# Altium footprint library FootPrintLib_2.PcbLib: 173 footprints (part 4 of 11)
Each footprint in its own frame and in the unit in brackets; x right, y up, seen from the top. Pads: shape width x height; smd on the part's side, far side on the other; paste and mask are expansions set on the pad; w line width, h text height; cw(c..) or ccw(c..) is an arc to the next point about the centre after c.
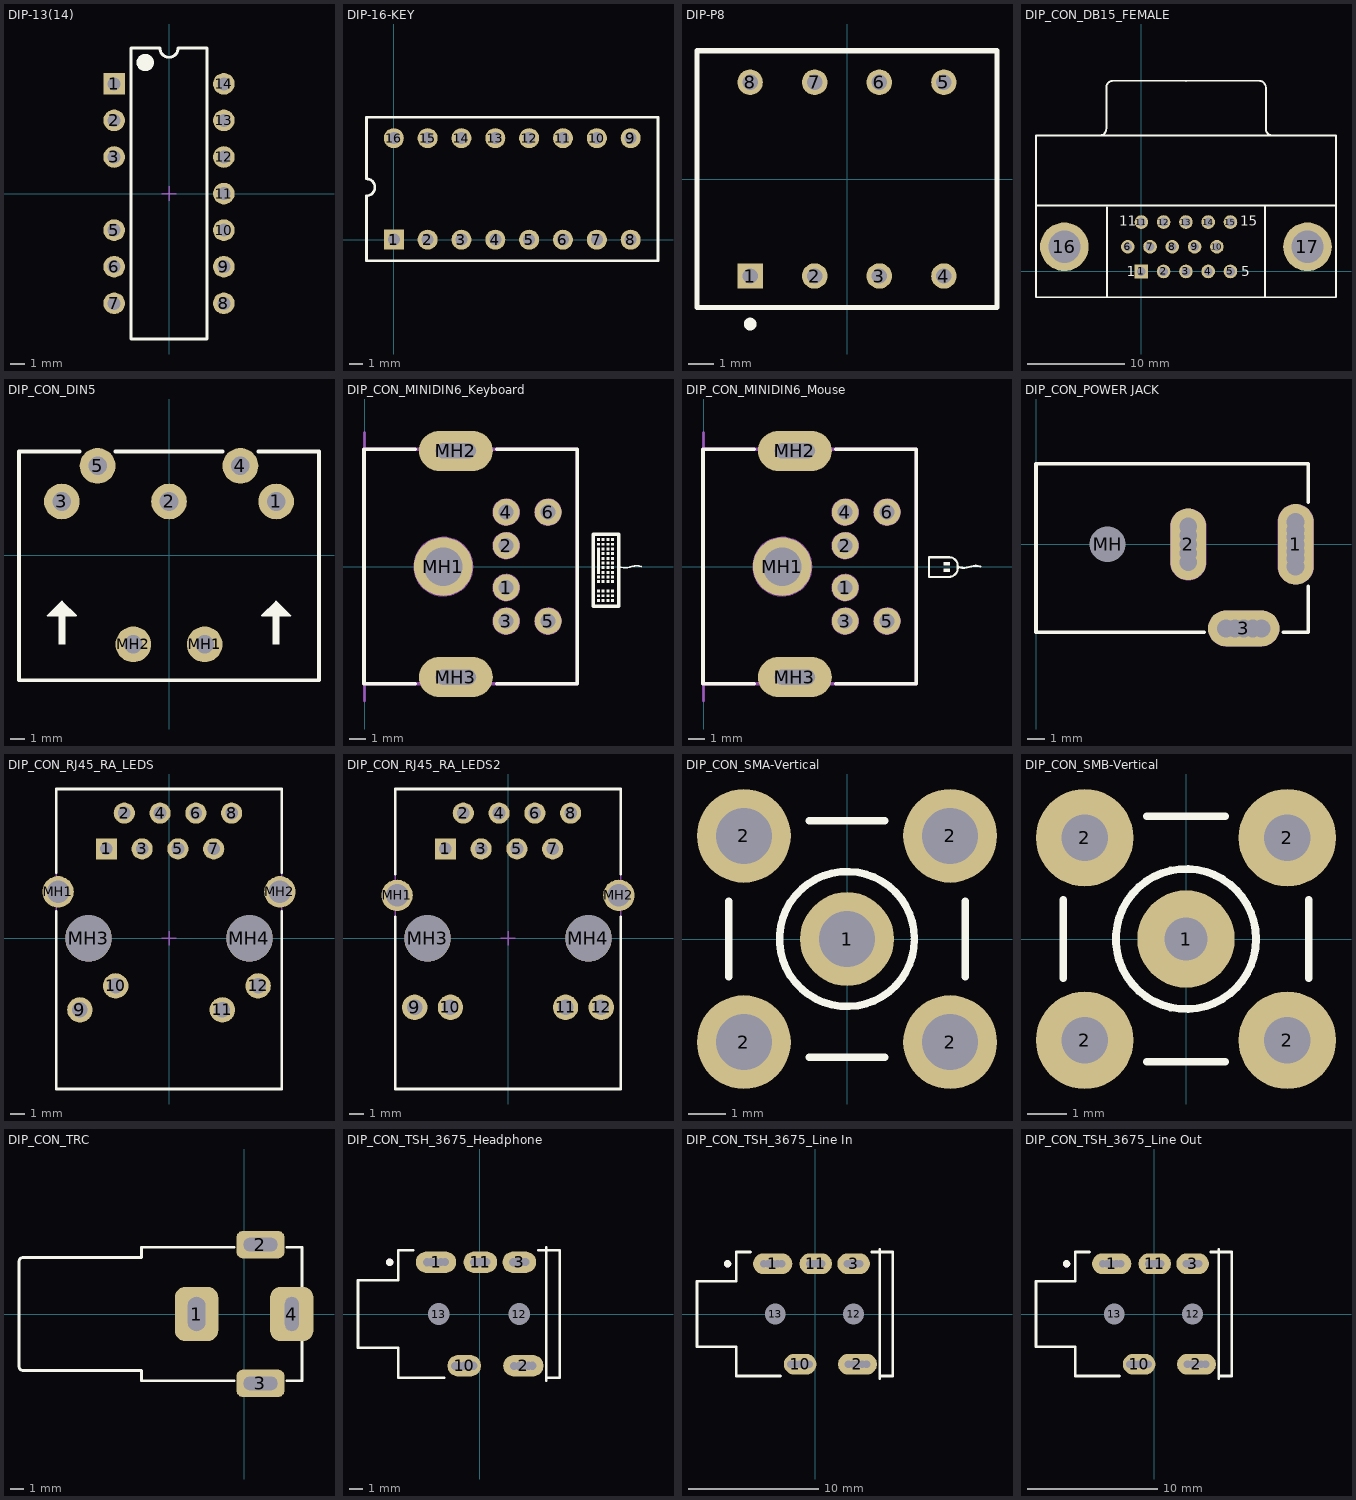
[diagram p3: the footprints below, top view; thin cyan lines are the x and y axes]

## DIP-13(14) [mm] "DIP; 14 Leads (1 Absent); Row Spacing 7.62 mm; Pitch 2.54 mm"
height 5.33
pads (13):
  rect 1.5x1.5 hole 0.9: 1(-3.81,7.62)
  round 1.5 hole 0.9: 2(-3.81,5.08) 3(-3.81,2.54) 5(-3.81,-2.54) 6(-3.81,-5.08) 7(-3.81,-7.62) 8(3.81,-7.62) 9(3.81,-5.08) 10(3.81,-2.54) 11(3.81,0) 12(3.81,2.54) 13(3.81,5.08) 14(3.81,7.62)
Top Overlay:
  circle w0.6: c-1.65,9.1 r0.3
  lines w0.2: -2.65,-10.1 -2.65,10.1 -0.635,10.1 ccw(c0,10.1) 0.635,10.1 2.65,10.1 2.65,-10.1 -2.65,-10.1
Mechanical 15:
  lines w0.1: -0.5,0 0.5,0 ; 0,-0.5 0,0.5

## DIP-16-KEY [mm] "DIP; 16 Leads; Row Spacing 7.62 mm; Pitch 2.54 mm"
pads (16):
  rect 1.5x1.5 hole 0.9: 1(0,0)
  round 1.5 hole 0.9: 2(2.54,0) 3(5.08,0) 4(7.62,0) 5(10.16,0) 6(12.7,0) 7(15.24,0) 8(17.78,0) 9(17.78,7.62) 10(15.24,7.62) 11(12.7,7.62) 12(10.16,7.62) 13(7.62,7.62) 14(5.08,7.62) 15(2.54,7.62) 16(0,7.62)
Top Overlay:
  lines w0.2: -2.05,4.57 cw(c-2.05,3.935) -2.05,3.3 -2.05,-1.59 19.83,-1.59 19.83,9.2 -2.05,9.2 -2.05,4.6

## DIP-P8 [mm] "Dual-Pole Dual-Throw Relay; 8 Leads"
pads (8):
  rect 1x1 hole 0.6: 1(-3.81,-3.81)
  round 1 hole 0.6: 2(-1.27,-3.81) 3(1.27,-3.81) 4(3.81,-3.81) 5(3.81,3.81) 6(1.27,3.81) 7(-1.27,3.81) 8(-3.81,3.81)
Top Overlay:
  circle w0.25: c-3.81,-5.7 r0.125
  lines w0.2: -5.9,-5.05 5.9,-5.05 5.9,5.05 -5.9,5.05 -5.9,-0.635 -5.9,-5.05

## DIP_CON_DB15_FEMALE [mm] "DB15 VGA connector"
height 14.5
pads (17):
  rect 1.4x1.4 hole 0.9: 1(0,0)
  round 1.4 hole 0.9: 2(2.29,0) 3(4.58,0) 4(6.87,0) 5(9.16,0) 6(-1.4,2.54) 7(0.89,2.54) 8(3.18,2.54) 9(5.47,2.54) 10(7.76,2.54) 11(0,5.08) 12(2.29,5.08) 13(4.58,5.08) 14(6.87,5.08) 15(9.16,5.08)
  round 5 hole 3.3: 16(-7.915,2.54) 17(17.075,2.54)
Top Overlay:
  lines w0.2: -10.83,6.77 20.01,6.77 ; -4.3,13.975 ccw(c-4.3,14.67) -3.605,14.67 -3.605,18.91 cw(c-2.91,18.91) -2.91,19.605 4.595,19.59 12.1,19.605 cw(c12.1,18.91) 12.795,18.91 12.795,14.67 ccw(c13.49,14.67) 13.49,13.975 ; -3.535,-2.65 -3.535,6.57 ; 12.725,-2.65 12.725,6.65 ; -10.83,-2.65 20.01,-2.65 20.01,13.97 -10.83,13.97 -10.83,-2.65
  text "1" at -1.524,-0.508 h1
  text "11" at -2.286,4.699 h1
  text "5" at 10.287,-0.508 h1
  text "15" at 10.16,4.699 h1
3D body "DB15 Analog RGB.stp": height 12.75, standoff -3.75, extent -10.935,-1.672 20.065,20.828

## DIP_CON_DIN5 [mm] "KMFCDIN76005"
height 21.5
pads (7):
  round 2.5 hole 1.3: 1(7.5,3.75) 2(0,3.75) 3(-7.5,3.75) 4(5,6.25) 5(-5,6.25) MH1(2.5,-6.25) MH2(-2.5,-6.25)
Top Overlay:
  rectangle: -7.75,-6.25 -7.25,-4.25
  region: 7.75,-4.25 7.25,-4.25 7.25,-6.25 7.75,-6.25
  region: -8.5,-4.25 -7.5,-3.25 -6.5,-4.25
  region: 8.5,-4.25 7.5,-3.25 6.5,-4.25
  lines w0.127: -8.5,-4.25 -7.5,-3.25 -6.5,-4.25 -8.5,-4.25 ; 6.5,-4.25 7.5,-3.25 8.5,-4.25 6.5,-4.25
  lines w0.254: -6.25,7.25 -10.5,7.25 -10.5,-8.75 10.5,-8.75 10.5,7.25 6.25,7.25 ; -3.75,7.25 3.75,7.25
3D body: height 13.2, standoff 12, extent 0.39,4.64 0.921,6.74
3D body: height 13.2, standoff 12, extent -0.89,4.62 -0.359,6.72
3D body "pin.stp": height 12.87, standoff -2.91, extent -5.72,5.087 -0.428,6.636
3D body "5PINDIN.STEP": height 21.4, standoff -3.5, extent -10.34,-8.95 10.36,6.05
3D body "pin.stp": height 12.87, standoff -2.91, extent 0.427,5.764 5.72,7.313

## DIP_CON_MINIDIN6_Keyboard [mm] "PS2 Conector-Keyboard"
height 13
pads (9):
  round 1.6 hole 0.9: 1(8.45,-1.25) 2(8.45,1.25) 3(8.45,-3.25) 4(8.45,3.25) 5(10.95,-3.25) 6(10.95,3.25)
  round 3.5 hole 2.3: MH1(4.7,0)
  oval 4.4x2.4 hole 0.9 slot 2.4 at 0 deg: MH2(5.45,6.905) MH3(5.45,-6.595)
Top Overlay:
  region: 13.873,1.702 13.873,1.524 14.051,1.524 14.051,1.702
  region: 13.873,1.422 13.873,1.245 14.051,1.245 14.051,1.422
  region: 13.873,-0.813 13.873,-0.991 14.051,-0.991 14.051,-0.813
  region: 13.873,-1.372 13.873,-1.549 14.051,-1.549 14.051,-1.372
  region: 13.873,-1.651 13.873,-1.829 14.051,-1.829 14.051,-1.651
  region: 13.873,-1.93 13.873,-2.108 14.051,-2.108 14.051,-1.93
  rectangle: 14.152,1.524 14.33,1.702
  rectangle: 14.432,1.524 14.61,1.702
  rectangle: 14.711,1.524 14.889,1.702
  region: 14.152,1.422 14.152,1.245 14.33,1.245 14.33,1.422
  region: 14.152,1.143 14.152,0.965 14.33,0.965 14.33,1.143
  region: 14.152,0.864 14.152,0.686 14.33,0.686 14.33,0.864
  region: 14.152,0.584 14.152,0.406 14.33,0.406 14.33,0.584
  region: 14.152,0.305 14.152,0.127 14.33,0.127 14.33,0.305
  region: 14.152,0.025 14.152,-0.152 14.33,-0.152 14.33,0.025
  region: 14.152,-0.254 14.152,-0.432 14.33,-0.432 14.33,-0.254
  region: 14.152,-0.533 14.152,-0.711 14.33,-0.711 14.33,-0.533
  region: 14.152,-0.813 14.152,-0.991 14.33,-0.991 14.33,-0.813
  region: 14.152,-1.372 14.152,-1.549 14.33,-1.549 14.33,-1.372
  region: 14.152,-1.651 14.152,-1.829 14.33,-1.829 14.33,-1.651
  region: 14.152,-1.93 14.152,-2.108 14.33,-2.108 14.33,-1.93
  region: 14.432,1.422 14.432,1.245 14.61,1.245 14.61,1.422
  region: 14.432,1.143 14.432,0.965 14.61,0.965 14.61,1.143
  region: 14.432,0.864 14.432,0.686 14.61,0.686 14.61,0.864
  region: 14.432,0.584 14.432,0.406 14.61,0.406 14.61,0.584
  region: 14.432,0.305 14.432,0.127 14.61,0.127 14.61,0.305
  region: 14.432,0.025 14.432,-0.152 14.61,-0.152 14.61,0.025
  region: 14.432,-0.254 14.432,-0.432 14.61,-0.432 14.61,-0.254
  region: 14.432,-0.533 14.432,-0.711 14.61,-0.711 14.61,-0.533
  region: 14.432,-0.813 14.432,-0.991 14.61,-0.991 14.61,-0.813
  region: 14.432,-1.372 14.432,-1.549 14.61,-1.549 14.61,-1.372
  region: 14.432,-1.651 14.432,-1.829 14.61,-1.829 14.61,-1.651
  region: 14.432,-1.93 14.432,-2.108 14.61,-2.108 14.61,-1.93
  region: 14.711,1.422 14.711,1.245 14.889,1.245 14.889,1.422
  region: 14.711,1.143 14.711,0.965 14.889,0.965 14.889,1.143
  region: 14.711,0.864 14.711,0.686 14.889,0.686 14.889,0.864
  region: 14.711,0.584 14.711,0.406 14.889,0.406 14.889,0.584
  region: 14.711,0.305 14.711,0.127 14.889,0.127 14.889,0.305
  region: 14.711,0.025 14.711,-0.152 14.889,-0.152 14.889,0.025
  region: 14.711,-0.254 14.711,-0.432 14.889,-0.432 14.889,-0.254
  region: 14.711,-0.533 14.711,-0.711 14.889,-0.711 14.889,-0.533
  region: 14.711,-0.813 14.711,-0.991 14.889,-0.991 14.889,-0.813
  region: 14.711,-1.372 14.711,-1.549 14.889,-1.549 14.889,-1.372
  region: 14.711,-1.651 14.711,-1.829 14.889,-1.829 14.889,-1.651
  region: 14.711,-1.93 14.711,-2.108 14.889,-2.108 14.889,-1.93
  region: 13.873,-0.533 13.873,-0.711 14.051,-0.711 14.051,-0.533
  region: 13.873,1.143 13.873,-0.432 14.051,-0.432 14.051,1.143
  lines w0.102: 15.168,0 ccw(c15.543,0.877) 15.839,-0.029 cw(c16.214,-0.907) 16.51,0
  lines w0.2: -0.05,-7 -0.05,7 ; 3.033,-7 0,-7 0,7 3.033,7 ; 7.889,-7 12.7,-7 12.7,7 7.889,7
  lines w0.203: 13.644,-2.362 13.644,1.93 15.168,1.93 15.168,-2.362 13.644,-2.362
Mechanical 7:
  circle w0.2: c10.95,3.25 r0.725
  circle w0.2: c10.95,-3.25 r0.725
  circle w0.2: c8.45,-3.25 r0.725
  circle w0.2: c8.45,-1.25 r0.725
  circle w0.2: c8.45,1.25 r0.725
  circle w0.2: c8.45,3.25 r0.725
  circle w0.2: c4.7,0 r1.697
  lines w0.2: 0,-8.001 0,-7 ; 0,8.001 0,7 ; 0,-7 0,7 ; 0,-7 0,7 ; -0.05,-7 12.7,-7 12.7,7 -0.05,7 -0.05,-7
  text "PCB Edge" at 1.143,-6.731 h0.8
3D body "Mini DIN - 6 Way - Purple.stp": height 13, standoff -3.2, extent -0.102,-7.025 12.698,6.975

## DIP_CON_MINIDIN6_Mouse [mm] "PS2 Connector-Mouse"
height 13
pads (9):
  round 1.6 hole 0.9: 1(8.45,-1.25) 2(8.45,1.25) 3(8.45,-3.25) 4(8.45,3.25) 5(10.95,-3.25) 6(10.95,3.25)
  round 3.5 hole 2.3: MH1(4.7,0)
  oval 4.4x2.4 hole 0.9 slot 2.4 at 0 deg: MH2(5.45,6.905) MH3(5.45,-6.595)
Top Overlay:
  region: 14.711,-0.33 14.711,-0.102 14.305,-0.102 14.305,-0.33
  region: 14.305,0.279 14.305,0.051 14.711,0.051 14.711,0.279
  lines w0.127: 14.648,-0.61 ccw(c14.648,-0.089) 15.169,-0.089 15.169,0.025 ; 14.648,0.559 cw(c14.648,0.038) 15.169,0.038 ; 14.66,-0.61 13.441,-0.61 13.441,0.559 14.66,0.559 ; 15.168,0 ccw(c15.543,0.877) 15.839,-0.029 cw(c16.214,-0.907) 16.51,0
  lines w0.2: -0.05,-7 -0.05,7 ; 3.033,-7 0,-7 0,7 3.033,7 ; 7.889,-7 12.7,-7 12.7,7 7.889,7
Mechanical 7:
  circle w0.2: c4.7,0 r1.697
  circle w0.2: c8.45,3.25 r0.725
  circle w0.2: c8.45,1.25 r0.725
  circle w0.2: c8.45,-1.25 r0.725
  circle w0.2: c8.45,-3.25 r0.725
  circle w0.2: c10.95,-3.25 r0.725
  circle w0.2: c10.95,3.25 r0.725
  lines w0.2: 0,-8.001 0,-7 ; 0,8.001 0,7 ; 0,-7 0,7 ; 0,-7 0,7 ; -0.05,-7 -0.05,7 12.7,7 12.7,-7 -0.05,-7
  text "PCB Edge" at 1.143,-6.731 h0.8
3D body "Mini DIN - 6 Way - Purple.stp": height 13, standoff -3.2, extent -0.102,-7.025 12.698,6.975

## DIP_CON_POWER JACK [mm] "Power Adaptor Jack"
height 11
pads (4):
  oval 2x4.5 hole 1: 1(14.5,0)
  oval 2x4 hole 1: 2(8.5,0)
  oval 4x2 hole 1: 3(11.6,-4.7)
  round 1.9 hole 2: MH(4,0)
via 14.5,1.25 diameter 1.5 hole 1
via 14.5,0.8 diameter 1.5 hole 1
via 14.5,0.4 diameter 1.5 hole 1
via 14.5,-0.4 diameter 1.5 hole 1
via 14.5,-0.8 diameter 1.5 hole 1
via 14.5,-1.25 diameter 1.5 hole 1
via 8.5,-1 diameter 1.5 hole 1
via 8.5,-0.5 diameter 1.5 hole 1
via 8.5,0.5 diameter 1.5 hole 1
via 8.5,1 diameter 1.5 hole 1
via 10.6,-4.7 diameter 1.5 hole 1
via 11.1,-4.7 diameter 1.5 hole 1
via 12.1,-4.7 diameter 1.5 hole 1
via 12.6,-4.7 diameter 1.5 hole 1
Top Overlay:
  lines w0.2: 9.4,-4.9 0,-4.9 0,4.5 15.2,4.5 15.2,2.35 ; 13.8,-4.9 15.2,-4.9 15.2,-2.35
Mechanical 1:
  lines w1: 8.5,-1 8.5,1 ; 10.6,-4.7 12.6,-4.7 ; 14.5,-1.25 14.5,1.25
Mechanical 2:
  lines w2.016: 8.5,-1 8.5,1 ; 10.6,-4.7 12.6,-4.7 ; 14.5,-1.25 14.5,1.25
3D body "SW3dPS-PowerJack-2.5x5.7mm.STEP": height 11, standoff -3.5, extent 0,-4.9 15.2,4.5

## DIP_CON_RJ45_RA_LEDS [mm] "RJ45 Ethernet Connector With LEDs"
height 13.2
pads (16):
  rect 1.5x1.5 hole 0.9: 1(-4.445,6.35)
  round 1.5 hole 0.9: 2(-3.175,8.89) 3(-1.905,6.35) 4(-0.635,8.89) 5(0.635,6.35) 6(1.905,8.89) 7(3.175,6.35) 8(4.445,8.89)
  round 1.8 hole 1.1: 9(-6.325,-5.08) 10(-3.785,-3.38) 11(3.785,-5.08) 12(6.325,-3.38)
  round 2.23 hole 1.6: MH1(-7.875,3.3) MH2(7.875,3.3)
  round 3.3 hole 3.3 unplated: MH3(-5.715,0) MH4(5.715,0)
Top Overlay:
  lines w0.2: -8,1.905 -8,-10.7 8,-10.7 8,1.905 ; -8,4.665 -8,10.6 8,10.6 8,4.665
Mechanical 13:
  lines w0.1: -8,-10.7 -8,10.6 8,10.6 8,-10.7 -8,-10.7
Mechanical 15:
  lines w0.1: -0.5,0 0.5,0 ; 0,-0.5 0,0.5
3D body "alteredRJstep.STEP": height 13.14, standoff -3.9, extent -7.897,-10.71 7.968,10.601

## DIP_CON_RJ45_RA_LEDS2 [mm] "HR911105A Connector"
height 13.2
pads (16):
  rect 1.5x1.5 hole 0.9: 1(-4.445,6.35)
  round 1.5 hole 0.9: 2(-3.175,8.89) 3(-1.905,6.35) 4(-0.635,8.89) 5(0.635,6.35) 6(1.905,8.89) 7(3.175,6.35) 8(4.445,8.89)
  round 1.8 hole 1.1: 9(-6.625,-4.9) 10(-4.085,-4.9) 11(4.085,-4.9) 12(6.625,-4.9)
  round 2.23 hole 1.6: MH1(-7.875,3.05) MH2(7.875,3.05)
  round 3.3 hole 3.3 unplated: MH3(-5.715,0) MH4(5.715,0)
Top Overlay:
  lines w0.2: -8,1.524 -8,-10.7 8,-10.7 8,1.524 ; -8,4.572 -8,10.6 8,10.6 8,4.572
Mechanical 13:
  lines w0.1: -8,-10.7 8,-10.7 8,10.6 -8,10.6 -8,-10.7
Mechanical 15:
  lines w0.1: -0.5,0 0.5,0 ; 0,-0.5 0,0.5
3D body "alteredRJstep.STEP": height 13.14, standoff -3.9, extent -7.897,-10.71 7.968,10.601

## DIP_CON_SMA-Vertical [mm] "High Frequency SMA Connector"
height 10
pads (5):
  round 2.5 hole 1.5: 1(0,0) 2(-2.75,-2.75) 2(-2.75,2.75) 2(2.75,-2.75) 2(2.75,2.75)
Top Overlay:
  circle w0.2: c0,0 r1.8
  lines w0.2: -3.15,-1 -3.15,1 ; -1,-3.15 1,-3.15 ; -1,3.15 1,3.15 ; 3.15,-1 3.15,1
Mechanical 1:
  circle w0.025: c0,0 r1.8
  circle w0.025: c0,0 r1.05
  circle w0.025: c0,0 r0.2
3D body "SMA.STEP": height 9.77, standoff -3.9, extent -3.25,-3.25 3.25,3.25

## DIP_CON_SMB-Vertical [mm] "High Frequency SMB Connector"
height 8
pads (5):
  round 2.5 hole 1.1: 1(0,0)
  round 2.5 hole 1.2: 2(-2.6,-2.6) 2(-2.6,2.6) 2(2.6,-2.6) 2(2.6,2.6)
Top Overlay:
  circle w0.2: c0,0 r1.8
  lines w0.2: -3.15,-1 -3.15,1 ; -1,-3.15 1,-3.15 ; -1,3.15 1,3.15 ; 3.15,-1 3.15,1
3D body "SMB.STEP": height 7.6, standoff -3, extent -2.985,-2.985 2.985,2.985

## DIP_CON_TRC [mm] "TRC Video Connector"
height 3
pads (4):
  rrect50% 3.2x4 hole 1.3 slot 2.5 at 90 deg: 1(-3.5,0)
  rrect50% 3.556x2.032 hole 1 slot 2.5 at 0 deg: 2(1.2,5.1) 3(1.2,-5.1)
  rrect50% 3.2x4 hole 1 slot 2.5 at 90 deg: 4(3.5,0)
Top Overlay:
  lines w0.2: -0.735,-4.9 -7.55,-4.9 -7.55,-4.15 -16.25,-4.15 cw(c-16.25,-3.85) -16.55,-3.85 -16.55,3.85 cw(c-16.25,3.85) -16.25,4.15 -7.55,4.15 -7.55,4.9 -0.735,4.9 ; 3.135,-4.9 4.25,-4.9 4.25,-1.69 ; 3.135,4.9 4.25,4.9 4.25,1.69
Mechanical 2:
  lines w1: 0.396,5.1 1.896,5.1 ; 0.45,-5.1 1.95,-5.1 ; 3.5,-0.75 3.5,0.75
  lines w1.3: -3.5,-0.6 -3.5,0.6
Mechanical 7:
  text "Assign keep-out area to slot" at -7.526,7.643 h0.3
  text "Alert PCB fab to slot details" at -7.526,7.143 h0.3
  text "Mech 2 - Clearance, move to internal plane if present" at -7.526,6.243 h0.3
  text "Mech 1 - Slot cut-out" at -7.526,6.743 h0.3
3D body: height 3, standoff 0, extent -3.561,2.452 -2.017,3.999
3D body "RCA Phono Jack.stp": height 13.58, standoff -4.84, extent -16.519,-5.265 3.983,5.519

## DIP_CON_TSH_3675_Headphone [mm] "TSH3675 Connector - Headphone"
height 7
pads (27):
  round 0.508 hole 0.6: 1(-3.935,3.848) 1(-3.617,3.848) 1(-2.882,3.852) 1(-2.565,3.852) 2(2.565,-3.852) 2(2.883,-3.852) 2(3.618,-3.848) 2(3.935,-3.848) 3(2.494,3.848) 3(2.735,3.848) 3(3.165,3.852) 3(3.406,3.852) 10(-1.835,-3.852) 10(-1.518,-3.852) 10(-0.783,-3.848) 10(-0.465,-3.848) 11(-0.406,3.848) 11(-0.165,3.848) 11(0.265,3.852) 11(0.506,3.852)
  oval 3x1.6 hole 0.6: 1(-3.25,3.85) 2(3.25,-3.85)
  oval 2.5x1.6 hole 0.6: 3(2.95,3.85) 10(-1.15,-3.85) 11(0.05,3.85)
  round 1.3 hole 1.6 unplated: 12(2.95,0) 13(-3.05,0)
Top Overlay:
  circle w0.3: c-6.7,3.85 r0.125
  lines w0.2: -4.95,4.75 -6.05,4.75 -6.05,2.5 -9.05,2.5 -9.05,-2.5 -6.05,-2.5 -6.05,-4.75 -2.65,-4.75 ; 4.35,4.75 5.95,4.75 5.95,-4.75 4.95,-4.75
  lines w0.203: 4.951,-4.95 4.951,4.95
Bottom Overlay:
  region: -4.686,2.468 -4.686,-4.54 -4.089,-4.54 -4.089,2.468
  region: -3.632,2.925 -3.632,2.747 -2.868,2.747 -2.868,2.925
  region: -0.332,2.925 -0.332,2.747 0.432,2.747 0.432,2.925
  region: 2.568,2.925 2.568,2.747 3.332,2.747 3.332,2.925
  region: -0.768,-2.925 -0.768,-2.747 -1.532,-2.747 -1.532,-2.925
  region: 3.632,-2.925 3.632,-2.747 2.868,-2.747 2.868,-2.925
  region: -6.981,2.596 -6.981,-2.611 -5.05,-2.611 -5.05,2.596
  region: 12.329,0.402 12.309,0.629 11.247,0.536 11.267,0.309
  region: 11.267,-0.41 11.247,-0.638 12.309,-0.731 12.329,-0.503
  lines w0.127: 9.836,-1.362 8.399,-1.362 ; 9.836,1.362 8.399,1.362 ; 8.399,-1.362 9.135,-1.093 9.133,-1.362 9.135,-1.631 8.399,-1.362 ; 8.399,1.362 9.135,1.631 9.133,1.362 9.135,1.093 8.399,1.362
  lines w0.152: 11.754,-0.72 ccw(c12.353,-0.042) 11.781,0.658
  lines w0.178: 8.794,-1.47 9.046,-1.47 ; 8.794,-1.254 9.046,-1.254 ; 8.794,1.254 9.046,1.254 ; 8.794,1.47 9.046,1.47
  lines w0.2: -5.05,-4.95 7.205,-4.95 7.205,4.95 -5.05,4.95 -5.05,-4.95
  lines w0.203: -4.342,1.425 -3.25,1.425 -3.25,2.816 ; -3.524,-1.012 -3.092,-1.012 -2.522,-2.149 -1.949,-1.012 2.267,-1.012 2.93,-1.012 3.226,-1.012 ; -2.305,0.944 -1.873,0.944 -1.303,2.081 -0.73,0.944 2.267,0.944 2.93,0.944 ; -1.499,-2.155 -1.181,-1.381 ; -1.181,-2.777 -1.181,-1.381 ; -0.864,-2.155 -1.181,-1.381 ; -0.279,2.087 0.038,1.312 ; 0.038,2.823 0.038,1.312 ; 0.356,2.087 0.038,1.312 ; 2.938,0.952 2.938,1.312 2.938,2.823 ; 3.238,-2.823 3.238,-1.312 3.238,-1.025 ; 11.418,-0.542 ccw(c11.818,-0.229) 12.144,-0.618 ; 11.418,0.44 cw(c11.818,0.127) 12.144,0.517
  text "L" at 3.659,-2.239 h0.86
  text "R" at 3.659,1.774 h0.86
  text "HEADPHONES" at 5.586,-4.318 h1.4
Mechanical 7:
  circle w0.3: c-6.7,3.85 r0.125
  lines w0.1: -4.95,4.75 -6.05,4.75 -6.05,2.5 -9.05,2.5 -9.05,-2.5 -6.05,-2.5 -6.05,-4.75 -2.65,-4.75 ; 4.35,4.75 5.95,4.75 5.95,-4.75 4.95,-4.75
3D body: height 0, standoff -2, extent 2.818,3.33 3.122,4.394
3D body: height 0, standoff -2, extent -0.093,3.308 0.211,4.373
3D body: height 0, standoff -2, extent -1.32,-4.425 -1.016,-3.361
3D body: height 0, standoff -2, extent -3.354,3.205 -3.049,4.496
3D body: height 0, standoff -2, extent 3.126,-4.471 3.431,-3.18
3D body "stereojackblack3-5.STEP": height 5, standoff 0, extent -9.025,-4.725 5.975,4.775

## DIP_CON_TSH_3675_Line In [mm] "TSH3675 Connector - Line In"
height 7
pads (27):
  round 0.508 hole 0.6: 1(-3.935,3.848) 1(-3.617,3.848) 1(-2.882,3.852) 1(-2.565,3.852) 2(2.565,-3.852) 2(2.883,-3.852) 2(3.618,-3.848) 2(3.935,-3.848) 3(2.494,3.848) 3(2.735,3.848) 3(3.165,3.852) 3(3.406,3.852) 10(-1.835,-3.852) 10(-1.518,-3.852) 10(-0.783,-3.848) 10(-0.465,-3.848) 11(-0.406,3.848) 11(-0.165,3.848) 11(0.265,3.852) 11(0.506,3.852)
  oval 3x1.6 hole 0.6: 1(-3.25,3.85) 2(3.25,-3.85)
  oval 2.5x1.6 hole 0.6: 3(2.95,3.85) 10(-1.15,-3.85) 11(0.05,3.85)
  round 1.3 hole 1.6 unplated: 12(2.95,0) 13(-3.05,0)
Top Overlay:
  circle w0.3: c-6.7,3.85 r0.125
  lines w0.2: -4.95,4.75 -6.05,4.75 -6.05,2.5 -9.05,2.5 -9.05,-2.5 -6.05,-2.5 -6.05,-4.75 -2.65,-4.75 ; 4.35,4.75 5.95,4.75 5.95,-4.75 4.95,-4.75
  lines w0.203: 4.951,-4.95 4.951,4.95
Bottom Overlay:
  region: -4.686,2.468 -4.686,-4.54 -4.089,-4.54 -4.089,2.468
  region: -3.632,2.925 -3.632,2.747 -2.868,2.747 -2.868,2.925
  region: -0.332,2.925 -0.332,2.747 0.432,2.747 0.432,2.925
  region: 2.568,2.925 2.568,2.747 3.332,2.747 3.332,2.925
  region: -0.768,-2.925 -0.768,-2.747 -1.532,-2.747 -1.532,-2.925
  region: 3.632,-2.925 3.632,-2.747 2.868,-2.747 2.868,-2.925
  region: -6.981,2.596 -6.981,-2.611 -5.05,-2.611 -5.05,2.596
  lines w0.127: 8.555,-1.362 9.992,-1.362 ; 8.555,1.362 9.992,1.362 ; 9.992,-1.362 9.256,-1.093 9.258,-1.362 9.256,-1.631 9.992,-1.362 ; 9.992,1.362 9.256,1.631 9.258,1.362 9.256,1.093 9.992,1.362
  lines w0.152: 11.49,0.754 cw(c12.369,-0.55) 13.179,0.798 ; 12.055,0.363 cw(c12.344,-0.525) 12.694,0.341
  lines w0.178: 9.346,-1.47 9.597,-1.47 ; 9.346,-1.254 9.597,-1.254 ; 9.346,1.254 9.597,1.254 ; 9.346,1.47 9.597,1.47
  lines w0.2: -5.05,-4.95 7.205,-4.95 7.205,4.95 -5.05,4.95 -5.05,-4.95
  lines w0.203: -4.342,1.425 -3.25,1.425 -3.25,2.816 ; -3.524,-1.012 -3.092,-1.012 -2.522,-2.149 -1.949,-1.012 2.267,-1.012 2.93,-1.012 3.226,-1.012 ; -2.305,0.944 -1.873,0.944 -1.303,2.081 -0.73,0.944 2.267,0.944 2.93,0.944 ; -1.499,-2.155 -1.181,-1.381 ; -1.181,-2.777 -1.181,-1.381 ; -0.864,-2.155 -1.181,-1.381 ; -0.279,2.087 0.038,1.312 ; 0.038,2.823 0.038,1.312 ; 0.356,2.087 0.038,1.312 ; 2.938,0.952 2.938,1.312 2.938,2.823 ; 3.238,-2.823 3.238,-1.312 3.238,-1.025 ; 11.937,-0.296 12.801,-0.296 ; 12.064,-0.652 11.455,-0.042 13.309,-0.042 12.699,-0.652 12.039,-0.652 12.039,-1.16 12.699,-1.16 12.699,-0.703 ; 12.217,-1.109 12.217,-0.55 ; 12.395,-1.109 12.395,-0.652 ; 12.547,-1.109 12.547,-0.703 ; 12.877,-0.245 12.649,-0.474 12.09,-0.474 11.76,-0.144 13.03,-0.144
  text "LINE IN" at 4.976,-4.95 h1.52
  text "L" at 3.659,-2.239 h0.86
  text "R" at 3.659,1.774 h0.86
Mechanical 7:
  circle w0.3: c-6.7,3.85 r0.125
  lines w0.1: -4.95,4.75 -6.05,4.75 -6.05,2.5 -9.05,2.5 -9.05,-2.5 -6.05,-2.5 -6.05,-4.75 -2.65,-4.75 ; 4.35,4.75 5.95,4.75 5.95,-4.75 4.95,-4.75
3D body "stereojackblack3-5.STEP": height 5, standoff 0, extent -9.025,-4.725 5.975,4.775
3D body: height 0, standoff -2, extent 2.818,3.33 3.122,4.394
3D body: height 0, standoff -2, extent -0.093,3.308 0.211,4.373
3D body: height 0, standoff -2, extent -1.32,-4.425 -1.016,-3.361
3D body: height 0, standoff -2, extent -3.354,3.205 -3.049,4.496
3D body: height 0, standoff -2, extent 3.126,-4.471 3.431,-3.18

## DIP_CON_TSH_3675_Line Out [mm] "TSH3675 Connector - Line Out"
height 7
pads (27):
  round 0.508 hole 0.6: 1(-3.935,3.848) 1(-3.617,3.848) 1(-2.882,3.852) 1(-2.565,3.852) 2(2.565,-3.852) 2(2.883,-3.852) 2(3.618,-3.848) 2(3.935,-3.848) 3(2.494,3.848) 3(2.735,3.848) 3(3.165,3.852) 3(3.406,3.852) 10(-1.835,-3.852) 10(-1.518,-3.852) 10(-0.783,-3.848) 10(-0.465,-3.848) 11(-0.406,3.848) 11(-0.165,3.848) 11(0.265,3.852) 11(0.506,3.852)
  oval 3x1.6 hole 0.6: 1(-3.25,3.85) 2(3.25,-3.85)
  oval 2.5x1.6 hole 0.6: 3(2.95,3.85) 10(-1.15,-3.85) 11(0.05,3.85)
  round 1.3 hole 1.6 unplated: 12(2.95,0) 13(-3.05,0)
Top Overlay:
  circle w0.3: c-6.7,3.85 r0.125
  lines w0.2: -4.95,4.75 -6.05,4.75 -6.05,2.5 -9.05,2.5 -9.05,-2.5 -6.05,-2.5 -6.05,-4.75 -2.65,-4.75 ; 4.35,4.75 5.95,4.75 5.95,-4.75 4.95,-4.75
  lines w0.203: 4.951,-4.95 4.951,4.95
Bottom Overlay:
  region: -6.981,2.596 -6.981,-2.611 -5.05,-2.611 -5.05,2.596
  region: 3.632,-2.925 3.632,-2.747 2.868,-2.747 2.868,-2.925
  region: -0.768,-2.925 -0.768,-2.747 -1.532,-2.747 -1.532,-2.925
  region: 2.568,2.925 2.568,2.747 3.332,2.747 3.332,2.925
  region: -0.332,2.925 -0.332,2.747 0.432,2.747 0.432,2.925
  region: -3.632,2.925 -3.632,2.747 -2.868,2.747 -2.868,2.925
  region: -4.686,2.468 -4.686,-4.54 -4.089,-4.54 -4.089,2.468
  lines w0.127: 9.836,-1.362 8.399,-1.362 ; 9.836,1.362 8.399,1.362 ; 8.399,-1.362 9.135,-1.093 9.133,-1.362 9.135,-1.631 8.399,-1.362 ; 8.399,1.362 9.135,1.631 9.133,1.362 9.135,1.093 8.399,1.362
  lines w0.152: 11.49,0.754 cw(c12.369,-0.55) 13.179,0.798 ; 12.055,0.363 cw(c12.344,-0.525) 12.694,0.341
  lines w0.178: 8.794,-1.47 9.046,-1.47 ; 8.794,-1.254 9.046,-1.254 ; 8.794,1.254 9.046,1.254 ; 8.794,1.47 9.046,1.47
  lines w0.2: -5.05,-4.95 -5.05,4.95 7.205,4.95 7.205,-4.95 -5.05,-4.95
  lines w0.203: -4.342,1.425 -3.25,1.425 -3.25,2.816 ; -3.524,-1.012 -3.092,-1.012 -2.522,-2.149 -1.949,-1.012 2.267,-1.012 2.93,-1.012 3.226,-1.012 ; -2.305,0.944 -1.873,0.944 -1.303,2.081 -0.73,0.944 2.267,0.944 2.93,0.944 ; -1.499,-2.155 -1.181,-1.381 ; -1.181,-2.777 -1.181,-1.381 ; -0.864,-2.155 -1.181,-1.381 ; -0.279,2.087 0.038,1.312 ; 0.038,2.823 0.038,1.312 ; 0.356,2.087 0.038,1.312 ; 2.938,0.952 2.938,1.312 2.938,2.823 ; 3.238,-2.823 3.238,-1.312 3.238,-1.025 ; 11.937,-0.296 12.801,-0.296 ; 12.064,-0.652 11.455,-0.042 13.309,-0.042 12.699,-0.652 12.039,-0.652 12.039,-1.16 12.699,-1.16 12.699,-0.703 ; 12.217,-1.109 12.217,-0.55 ; 12.395,-1.109 12.395,-0.652 ; 12.547,-1.109 12.547,-0.703 ; 12.877,-0.245 12.649,-0.474 12.09,-0.474 11.76,-0.144 13.03,-0.144
  text "LINE OUT" at 4.976,-4.95 h1.52
  text "R" at 3.659,1.774 h0.86
  text "L" at 3.659,-2.239 h0.86
Mechanical 7:
  circle w0.3: c-6.7,3.85 r0.125
  lines w0.1: -4.95,4.75 -6.05,4.75 -6.05,2.5 -9.05,2.5 -9.05,-2.5 -6.05,-2.5 -6.05,-4.75 -2.65,-4.75 ; 4.35,4.75 5.95,4.75 5.95,-4.75 4.95,-4.75
3D body "stereojackblack3-5.STEP": height 5, standoff 0, extent -9.025,-4.725 5.975,4.775
3D body: height 0, standoff -2, extent 3.126,-4.471 3.431,-3.18
3D body: height 0, standoff -2, extent -3.354,3.205 -3.049,4.496
3D body: height 0, standoff -2, extent -1.32,-4.425 -1.016,-3.361
3D body: height 0, standoff -2, extent -0.093,3.308 0.211,4.373
3D body: height 0, standoff -2, extent 2.818,3.33 3.122,4.394